# Altium footprint library BuckConverter.PcbLib: 28 footprints (part 1 of 2)
Each footprint in its own frame and in the unit in brackets; x right, y up, seen from the top. Pads: shape width x height; smd on the part's side, far side on the other; paste and mask are expansions set on the pad; w line width, h text height; cw(c..) or ccw(c..) is an arc to the next point about the centre after c.
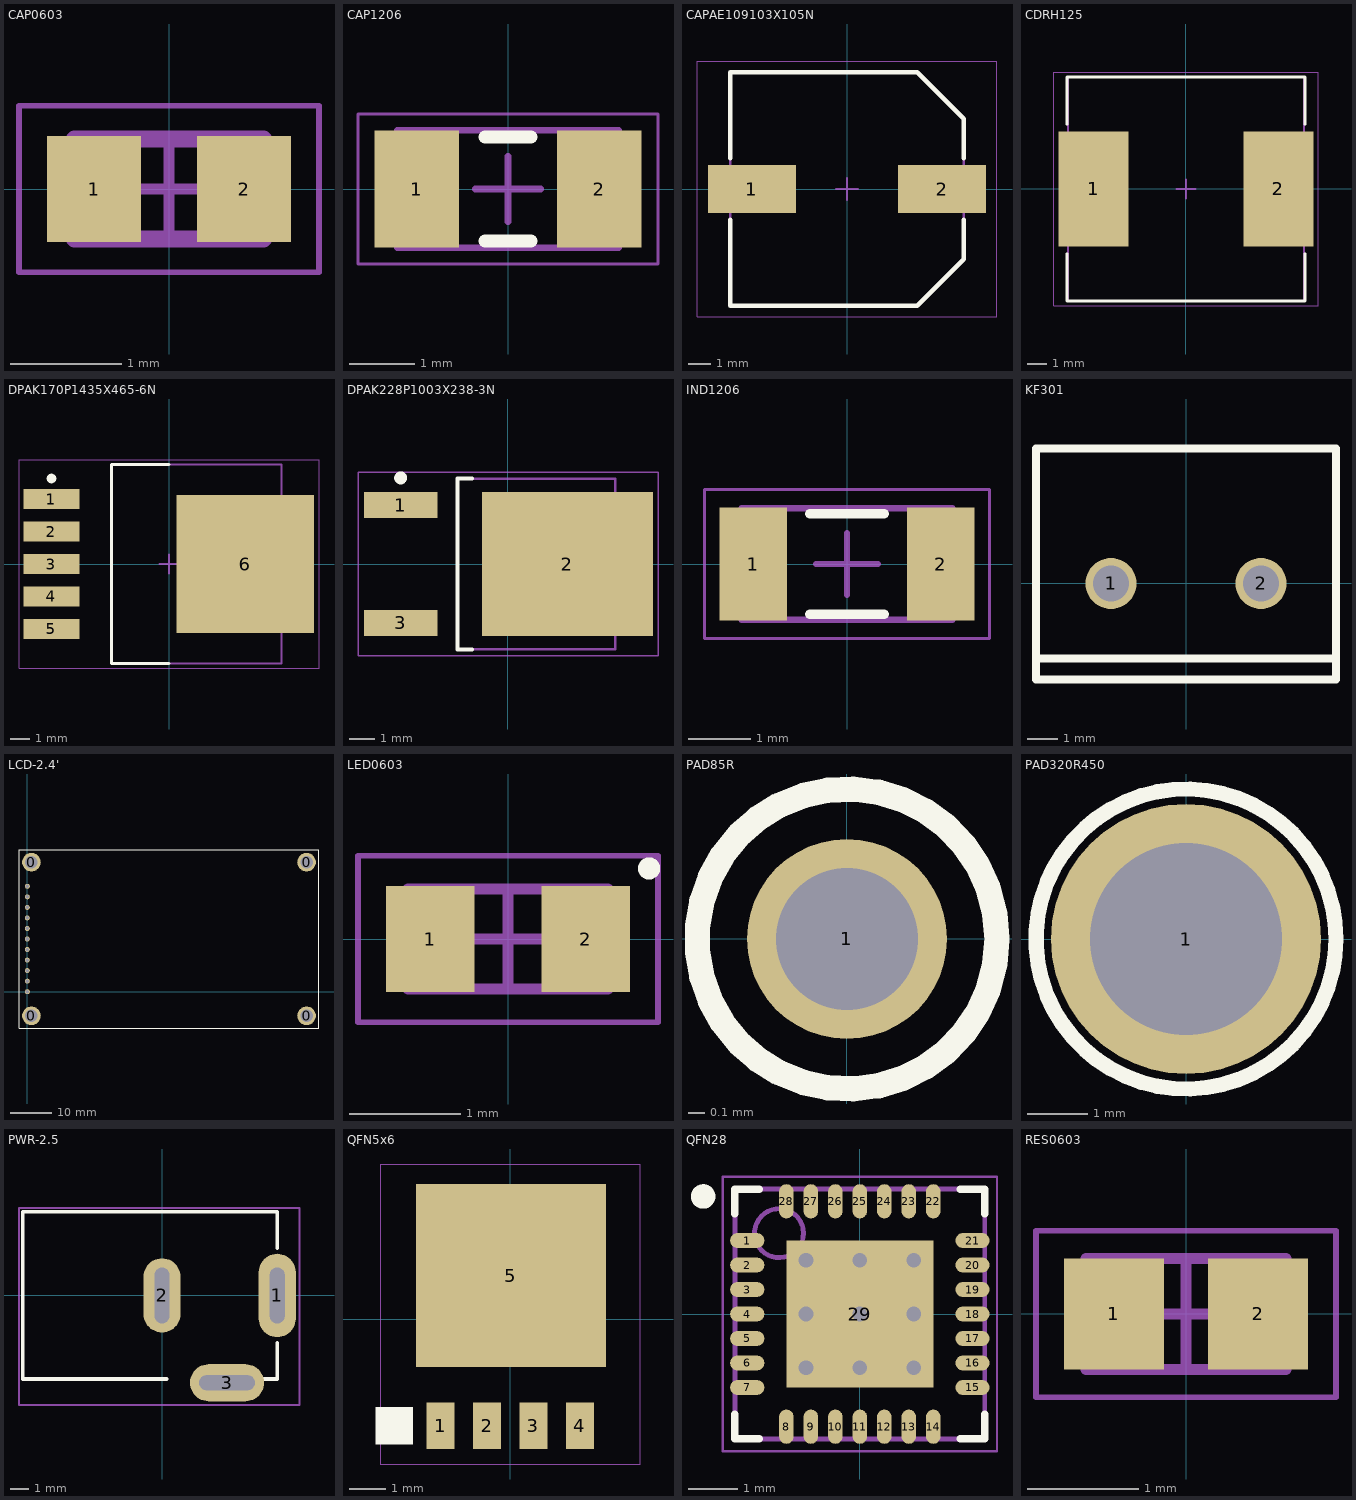
[diagram p0: the footprints below, top view; thin cyan lines are the x and y axes]

## CAP0603 [mm]
pads (2):
  rect 0.85x0.95 smd: 1(-0.675,0) 2(0.675,0)
Mechanical 13:
  lines w0.152: -0.85,-0.45 -0.85,0.45 0.85,0.45 0.85,-0.45 -0.85,-0.45
Mechanical 15:
  lines w0.05: -1.35,-0.75 -1.35,0.75 1.35,0.75 1.35,-0.75 -1.35,-0.75
  lines w0.1: -0.45,0 0.45,0 ; 0,-0.45 0,0.45
3D body: height 0.55, standoff 0, extent -0.5,-0.45 0.5,0.45
3D body: height 0.55, standoff 0, extent -0.85,-0.45 -0.5,0.45
3D body: height 0.55, standoff 0, extent 0.5,-0.45 0.85,0.45

## CAP1206 [mm]
pads (2):
  rect 1.3x1.8 smd: 1(-1.4,0) 2(1.4,0)
Top Overlay:
  lines w0.2: -0.35,-0.8 0.35,-0.8 ; -0.35,0.8 0.35,0.8
Mechanical 13:
  lines w0.1: -1.7,-0.9 1.7,-0.9 1.7,0.9 -1.7,0.9 -1.7,-0.9
Mechanical 15:
  lines w0.05: -2.3,-1.15 2.3,-1.15 2.3,1.15 -2.3,1.15 -2.3,-1.15
  lines w0.1: -0.5,0 0.5,0 ; 0,-0.5 0,0.5
3D body "CAP1206.step": height 0.74, standoff -0.04, extent -1.6,-0.8 1.6,0.8

## CAPAE109103X105N [mm]
pads (2):
  rect 3.95x2.15 smd: 1(-4.275,0) 2(4.275,0)
Top Overlay:
  lines w0.2: -5.25,-1.375 -5.25,-5.25 3.163,-5.25 5.25,-3.162 5.25,-1.375 ; -5.25,1.375 -5.25,5.25 3.163,5.25 5.25,3.163 5.25,1.375
Mechanical 13:
  lines w0.1: -5.25,-5.25 3.163,-5.25 5.25,-3.162 5.25,3.163 3.163,5.25 -5.25,5.25 -5.25,-5.25
Mechanical 15:
  lines w0.05: -6.75,-5.75 -6.75,5.75 6.75,5.75 6.75,-5.75 -6.75,-5.75
  lines w0.1: -0.5,0 0.5,0 ; 0,-0.5 0,0.5
3D body "CAPAE109103X105N.step": height 10.5, standoff 0, extent -5.45,-5.25 5.45,5.25

## CDRH125 [mm]
pads (2):
  rect 3.65x6 smd: 1(-4.825,0) 2(4.825,0)
Top Overlay:
  lines w0.152: -6.2,-3.376 -6.2,-5.85 6.2,-5.85 6.2,-3.376 ; -6.2,3.376 -6.2,5.85 6.2,5.85 6.2,3.376
Mechanical 13:
  lines w0.1: -6.15,-5.85 -6.15,5.85 6.15,5.85 6.15,-5.85 -6.15,-5.85
Mechanical 15:
  lines w0.05: -6.9,-6.1 -6.9,6.1 6.9,6.1 6.9,-6.1 -6.9,-6.1
  lines w0.1: -0.5,0 0.5,0 ; 0,-0.5 0,0.5
3D body "CDRH125.step": height 6.3, standoff 0.05, extent -6.171,-6 6.171,6

## DPAK170P1435X465-6N [mm] "D2-PAK, 6-Pads, Body 7.55x8.56mm (max), IPC Medium Density"
height 4.65
pads (6):
  rect 2.95x1.05 smd: 1(-6.15,3.4) 2(-6.15,1.7) 3(-6.15,0) 4(-6.15,-1.7) 5(-6.15,-3.4)
  rect 7.2x7.2 smd: 6(4,0)
Top Overlay:
  circle w0.25: c-6.15,4.475 r0.125
  lines w0.152: 0,-5.2 -3,-5.2 -3,5.2 0,5.2
Mechanical 13:
  lines w0.1: -3,-5.2 5.89,-5.2 5.89,5.2 -3,5.2 -3,-5.2
Mechanical 15:
  lines w0.05: -7.85,-5.45 7.85,-5.45 7.85,5.45 -7.85,5.45 -7.85,-5.45
  lines w0.1: -0.5,0 0.5,0 ; 0,-0.5 0,0.5
3D body "DPAK170P1435X465-6N.step": height 4.65, standoff 0, extent -6.775,-5.2 7.575,5.2

## DPAK228P1003X238-3N [mm]
pads (3):
  rect 2.85x1 smd: 1(-4.15,2.28) 3(-4.15,-2.28)
  rect 6.6x5.55 smd: 2(2.3,0)
Top Overlay:
  circle w0.25: c-4.15,3.33 r0.125
  lines w0.152: -1.4,-3.3 -1.95,-3.3 -1.95,3.3 -1.4,3.3
Mechanical 13:
  lines w0.1: -1.95,-3.3 4.15,-3.3 4.15,3.3 -1.95,3.3 -1.95,-3.3
Mechanical 15:
  lines w0.05: -5.8,-3.55 5.8,-3.55 5.8,3.55 -5.8,3.55 -5.8,-3.55
  lines w0.1: -0.5,0 0.5,0 ; 0,-0.5 0,0.5
3D body "User Library-DPAK_TO-252AA.step": height 2.37, standoff -0.03, extent -4.998,-3.342 5.102,3.392

## IND1206 [mm]
pads (2):
  rect 1.09x1.82 smd: 1(-1.51,0) 2(1.51,0)
Top Overlay:
  lines w0.152: -0.6,-0.81 0.6,-0.81 ; -0.6,0.81 0.6,0.81
Mechanical 13:
  lines w0.1: -1.7,-0.9 1.7,-0.9 1.7,0.9 -1.7,0.9 -1.7,-0.9
Mechanical 15:
  lines w0.05: -2.3,-1.2 2.3,-1.2 2.3,1.2 -2.3,1.2 -2.3,-1.2
  lines w0.1: -0.5,0 0.5,0 ; 0,-0.5 0,0.5
3D body "IND1206.step": height 0.6, standoff 0, extent -1.7,-0.9 1.7,0.9

## KF301 [mm]
pads (2):
  round 1.7 hole 1.2: 1(-2.5,0) 2(2.5,0)
Top Overlay:
  lines w0.254: -5,-2.5 5,-2.5 ; -5,-3.2 5,-3.2 5,4.5 -5,4.5 -5,-3.2
3D body "User Library-Terminal-Screw-3A-2way.step": height 10, standoff -3, extent -5.3,-3.1 5.3,4.5

## LCD-2.4' [mm]
pads (15):
  round 4.5 hole 3: 0(1,-5.8) 0(1,31.2) 0(67.26,-5.8) 0(67.26,31.2)
  round 1.2 hole 0.85: 1(0,0) 2(0,2.54) 3(0,5.08) 4(0,7.62) 5(0,10.16) 6(0,12.7) 7(0,15.24) 8(0,17.78) 9(0,20.32) 10(0,22.86) 11(0,25.4)
Top Overlay:
  lines w0.254: -2,-8.8 70.26,-8.8 70.26,34.2 -2,34.2 -2,-8.8

## LED0603 [mm]
pads (2):
  rect 0.8x0.95 smd: 1(-0.7,0) 2(0.7,0)
Top Overlay:
  circle w0.1: c1.27,0.635 r0.05
Mechanical 13:
  lines w0.1: -0.9,-0.45 0.9,-0.45 0.9,0.45 -0.9,0.45 -0.9,-0.45
Mechanical 15:
  lines w0.05: -1.35,-0.75 1.35,-0.75 1.35,0.75 -1.35,0.75 -1.35,-0.75
  lines w0.1: -0.45,0 0.45,0 ; 0,-0.45 0,0.45
3D body "LED0603.step": height 0.6, standoff 0, extent -0.81,-0.4 0.81,0.4

## PAD85R [mm]
pads (1):
  round 1.2 hole 0.85: 1(0,0)
Top Overlay:
  circle w0.152: c0,0 r0.9

## PAD320R450 [mm]
pads (1):
  round 4.5 hole 3.2: 1(0,0)
Top Overlay:
  circle w0.254: c0,0 r2.5

## PWR-2.5 [mm]
pads (3):
  oval 2x4.5 hole 0.8 slot 3 at 90 deg: 1(6.2,0)
  oval 2x4 hole 0.8 slot 3 at 90 deg: 2(0,0)
  oval 4x2 hole 0.8 slot 3 at 0 deg: 3(3.5,-4.7)
Top Overlay:
  lines w0.2: 0.25,-4.5 -7.5,-4.5 -7.5,4.5 6.2,4.5 6.2,2.55 ; 4.75,-4.5 6.2,-4.5 6.2,-2.55
Mechanical 15:
  lines w0.1: -7.7,-5.9 7.4,-5.9 7.4,4.7 -7.7,4.7 -7.7,-5.9
3D body "User Library-PowerJack-2_5x5_7mm.step": height 11, standoff -3.5, extent -8.3,-4.7 6.9,4.7

## QFN5x6 [mil]
pads (5):
  rect 30x50 smd paste+1.5 mask+1.5: 1(-75,-115) 2(-25,-115) 3(25,-115) 4(75,-115)
  rect 204.72x196.85 smd paste+0.64 mask+0.64: 5(0.79,46.85)
Top Overlay:
  region: -105,-135 -105,-95 -145,-95 -145,-135
Mechanical 5:
  lines w1.1: -140,-156 140,-156 ; -139.37,-155.91 -139.37,166.93 140.16,166.93 140.16,-155.91

## QFN28 [mm]
pads (29):
  oval 0.7x0.3 smd: 1(-2.3,1.5) 2(-2.3,1) 3(-2.3,0.5) 4(-2.3,0) 5(-2.3,-0.5) 6(-2.3,-1) 7(-2.3,-1.5) 15(2.3,-1.5) 16(2.3,-1) 17(2.3,-0.5) 18(2.3,0) 19(2.3,0.5) 20(2.3,1) 21(2.3,1.5)
  oval 0.3x0.7 smd: 8(-1.5,-2.3) 9(-1,-2.3) 10(-0.5,-2.3) 11(0,-2.3) 12(0.5,-2.3) 13(1,-2.3) 14(1.5,-2.3) 22(1.5,2.3) 23(1,2.3) 24(0.5,2.3) 25(0,2.3) 26(-0.5,2.3) 27(-1,2.3) 28(-1.5,2.3)
  rect 3x3 smd: 29(0,0)
via -1.1,1.1 diameter 0.5 hole 0.3
via 0,1.1 diameter 0.5 hole 0.3
via 1.1,1.1 diameter 0.5 hole 0.3
via 1.1,0 diameter 0.5 hole 0.3
via 1.1,-1.1 diameter 0.5 hole 0.3
via 0,0 diameter 0.5 hole 0.3
via -1.1,0 diameter 0.5 hole 0.3
via 0,-1.1 diameter 0.5 hole 0.3
via -1.1,-1.1 diameter 0.5 hole 0.3
Top Overlay:
  circle w0.25: c-3.2,2.4 r0.125
  lines w0.152: -2.55,-2.051 -2.55,-2.55 -2.051,-2.55 ; -2.55,2.051 -2.55,2.55 -2.051,2.55 ; 2.051,-2.55 2.55,-2.55 2.55,-2.051 ; 2.051,2.55 2.55,2.55 2.55,2.051
Mechanical 13:
  circle w0.1: c-1.65,1.65 r0.5
  lines w0.1: -2.55,-2.55 -2.55,2.55 2.55,2.55 2.55,-2.55 -2.55,-2.55
Mechanical 15:
  lines w0.05: -2.8,-2.8 -2.8,2.8 2.8,2.8 2.8,-2.8 -2.8,-2.8
  lines w0.1: -0.5,0 0.5,0 ; 0,-0.5 0,0.5
3D body "QFN28.STEP": height 1, standoff 0, extent -2.5,-2.5 2.5,2.5

## RES0603 [mm]
pads (2):
  rect 0.9x1 smd: 1(-0.65,0) 2(0.65,0)
Mechanical 13:
  lines w0.1: -0.9,-0.5 -0.9,0.5 0.9,0.5 0.9,-0.5 -0.9,-0.5
Mechanical 15:
  lines w0.05: -1.35,-0.75 -1.35,0.75 1.35,0.75 1.35,-0.75 -1.35,-0.75
  lines w0.1: -0.5,0 0.5,0 ; 0,-0.5 0,0.5
3D body "RES0603.step": height 0.56, standoff 0, extent -0.85,-0.381 0.85,0.419